# Altium footprint library SOP8.PcbLib: 5 footprints
Each footprint in its own frame and in the unit in brackets; x right, y up, seen from the top. Pads: shape width x height; smd on the part's side, far side on the other; paste and mask are expansions set on the pad; w line width, h text height; cw(c..) or ccw(c..) is an arc to the next point about the centre after c.
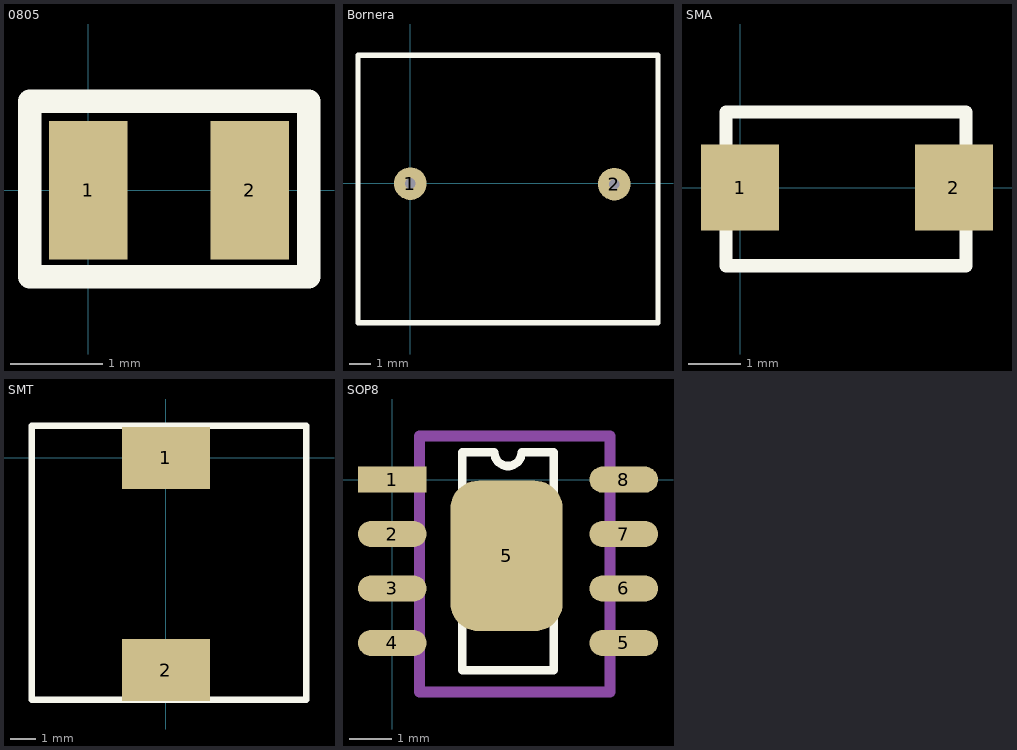
[diagram p0: the footprints below, top view; thin cyan lines are the x and y axes]

## 0805 [mm]
pads (2):
  rect 0.85x1.5 smd: 1(0,0) 2(1.75,0)
Top Overlay:
  lines w0.254: -0.635,0.965 -0.635,-0.94 2.388,-0.94 2.388,0.965 -0.584,0.965

## Bornera [mil]
pads (2):
  round 60 hole 19.68: 1(0,-1) 2(374.8,-2)
Top Overlay:
  lines w10: -96.18,-257 455,-257 455,235.13 -96.18,235.13 -96.18,-257

## SMA [mm]
pads (2):
  rect 1.5x1.65 smd: 1(0,0) 2(4.1,0)
Top Overlay:
  lines w0.254: -0.268,-1.502 -0.268,1.448 4.332,1.448 ; -0.268,-1.499 4.332,-1.499 ; 4.329,-1.502 4.329,1.448

## SMT [mm]
pads (2):
  rect 3.4x2.4 smd: 1(0,0) 2(0,-8.2)
Top Overlay:
  lines w0.254: -5.182,-9.355 5.418,-9.355 5.418,1.245 -5.182,1.245 -5.182,-9.355

## SOP8 [mm]
pads (9):
  rect 1.6x0.61 smd: 1(0,0)
  oval 1.6x0.61 smd: 2(0,-1.27) 3(0,-2.54) 4(0,-3.81) 5(5.4,-3.81) 6(5.4,-2.54) 7(5.4,-1.27) 8(5.4,0)
  rrect50% 2.62x3.51 smd: 5(2.667,-1.778)
Top Overlay:
  lines w0.2: 1.635,-4.445 1.635,0.635 2.382,0.635 ccw(c2.7,0.635) 3.017,0.635 3.765,0.635 3.765,-4.445 1.635,-4.445
Mechanical 1:
  lines w0.254: 0.635,-4.953 0.635,1.016 ; 0.699,-4.953 5.08,-4.953 5.08,1.016 0.699,1.016